# EAGLE library part TPD12S521 (library ic-TI)
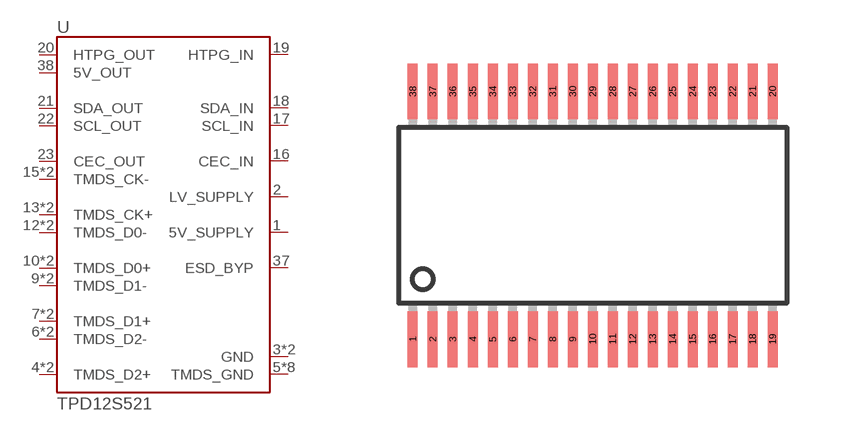
[diagram p57: symbol with the pads of TSSOP38-0.5; footprint TSSOP38-0.5]

Designator prefix U

## TPD12S521  [TSSOP38-0.5]
1  5V_SUPPLY
2  LV_SUPPLY
3  GND
4  TMDS_D2+
5  TMDS_GND
6  TMDS_D2-
7  TMDS_D1+
8  TMDS_GND
9  TMDS_D1-
10  TMDS_D0+
11  TMDS_GND
12  TMDS_D0-
13  TMDS_CK+
14  TMDS_GND
15  TMDS_CK-
16  CEC_IN
17  SCL_IN
18  SDA_IN
19  HTPG_IN
20  HTPG_OUT
21  SDA_OUT
22  SCL_OUT
23  CEC_OUT
24  TMDS_CK-
25  TMDS_GND
26  TMDS_CK+
27  TMDS_D0-
28  TMDS_GND
29  TMDS_D0+
30  TMDS_D1-
31  TMDS_GND
32  TMDS_D1+
33  TMDS_D2-
34  TMDS_GND
35  TMDS_D2+
36  GND
37  ESD_BYP
38  5V_OUT

## Footprint TSSOP38-0.5 (pad centres in mm)
smd 0.25 x 1.4: 1 -4.5,-3.1; 2 -4,-3.1; 3 -3.5,-3.1; 4 -3,-3.1; 5 -2.5,-3.1; 6 -2,-3.1; 7 -1.5,-3.1; 8 -1,-3.1; 9 -0.5,-3.1; 10 0,-3.1; 11 0.5,-3.1; 12 1,-3.1; 13 1.5,-3.1; 14 2,-3.1; 15 2.5,-3.1; 16 3,-3.1; 17 3.5,-3.1; 18 4,-3.1; 19 4.5,-3.1; 20 4.5,3.1; 21 4,3.1; 22 3.5,3.1; 23 3,3.1; 24 2.5,3.1; 25 2,3.1; 26 1.5,3.1; 27 1,3.1; 28 0.5,3.1; 29 0,3.1; 30 -0.5,3.1; 31 -1,3.1; 32 -1.5,3.1; 33 -2,3.1; 34 -2.5,3.1; 35 -3,3.1; 36 -3.5,3.1; 37 -4,3.1; 38 -4.5,3.1